# EAGLE library part WE-RJ45_7498210003 (library 7499511611A_Eagle_WE-RJ45_rev20a)
WE-RJ45 LAN Transformer Characteristics RJ45 Connector with integrated transformer / common mode choke Power over Ethernet up to 50 Watt and speeds up to 10 Gbit/s Available in SMD, THT and THT with USB Compliant with standards: IEEE 802.3u, IEEE 802.3ab, IEEE 802.3af, IEEE 802.3at, IEEE 802.3an and upcoming IEE 802.3bt Applications Suitable for industrial temperatures from –40 °C up to +85 °C Compatible to Industrial Ethernet systems like EtherCAT or Profinet Compliant with most IC’s for Ethernet applications such as Microchip, Texas Instruments, Broadcom, Linear Technology Hubs, Routers, Switches, IP cameras, IoT applications <https://katalog.we-online.com/media/images/v2/o35731v209%20Family_WE-RJ45-LAN.jpg> Details see: https://katalog.we-online.com/en/pbs/WE-LAN-RJ45 Updated by Ella Wu 2019-08-05 2019 (C) Wurth Elektronik
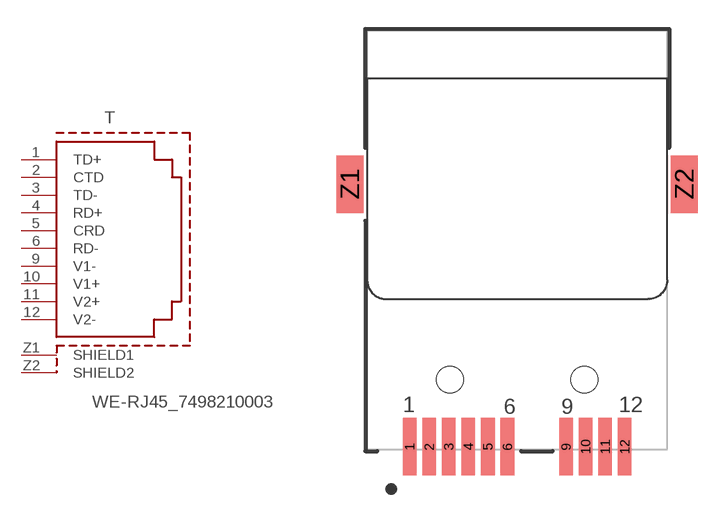
[diagram p50: symbol with the pads of 7498210003; footprint 7498210003]

Designator prefix T

## WE-RJ45_7498210003 (DATA-RATE: 10/100 Base-T; DATASHEET-URL: https://www.we-online.com/catalog/datasheet/7498210003.pdf; LED: -; MOUNT: SMT; PART-NUMBER: 7498210003; POE: PoE (up to 350 mA); PORTS: 1; USB: No)  [7498210003]
1  TD+
2  CTD
3  TD-
4  RD+
5  CRD
6  RD-
9  V1-
10  V1+
11  V2+
12  V2-
Z1  SHIELD1  pwr
Z2  SHIELD2  pwr

## Footprint 7498210003 (pad centres in mm)
WE-RJ45 LAN Transformer 10/100 Base-T
smd 0.71 x 3: 1 -5.61,-3.5; 2 -4.59,-3.5; 3 -3.57,-3.5; 4 -2.55,-3.5; 5 -1.53,-3.5; 6 -0.51,-3.5; 9 2.55,-3.5; 10 3.57,-3.5; 11 4.59,-3.5; 12 5.61,-3.5
smd 1.4 x 3: Z1 -8.725,10.2; Z2 8.725,10.2
hole 1.4 at -3.5,0
hole 1.4 at 3.5,0